# EAGLE library part MODULO_ADXL345_ITG-3200 (library GEAP)
Módulo Acelerômetro ADXL345 + Giroscópio ITG-3200 SparkFun https://www.sparkfun.com/products/retired/10121
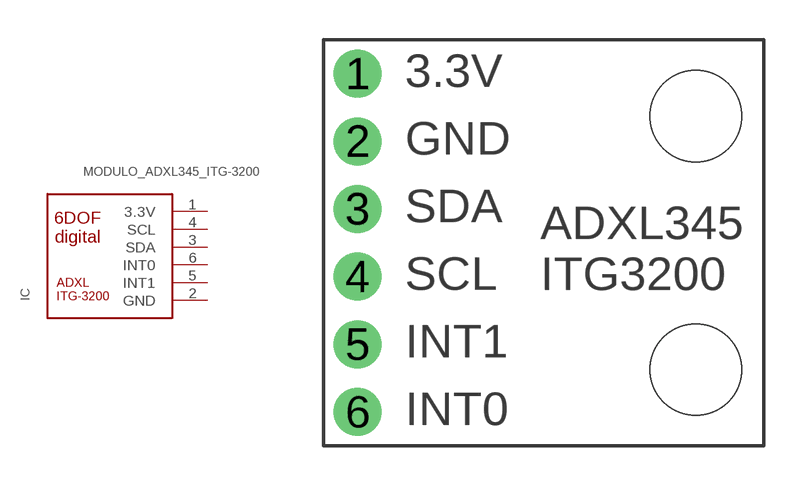
[diagram p0: symbol with the pads of MODULO_ADXL345_ITG-3200; footprint MODULO_ADXL345_ITG-3200]

Designator prefix IC

## MODULO_ADXL345_ITG-3200  [MODULO_ADXL345_ITG-3200]
1  3.3V  pwr
2  GND  pwr
3  SDA
4  SCL  in
5  INT1  out
6  INT0  out

## Footprint MODULO_ADXL345_ITG-3200 (pad centres in mm)
Módulo ADXL345 + ITG3200 Sparkfun
drill 0.9 pad 1.8: 1 1.27,13.97; 2 1.27,11.43; 3 1.27,8.89; 4 1.27,6.35; 5 1.27,3.81; 6 1.27,1.27
hole 3.429 at 13.97,12.383
hole 3.429 at 13.97,2.857